# EAGLE library part BREAKOUT_HEADER (library quadparts_brandon)
10 pin single inline pin header, socket, or connector
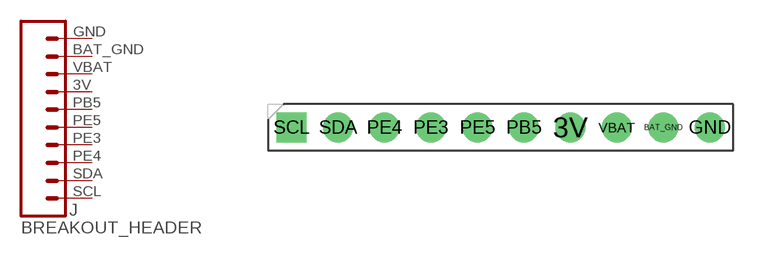
[diagram p1: symbol with the pads of HDRV10W63P254_10X1_2540X254H838_HS; footprint HDRV10W63P254_10X1_2540X254H838_HS]

Designator prefix J

## BREAKOUT_HEADERTH-254X10-1 (CREATOR: Brandon Rahman; DIST: Digikey; DISTPN: 609-3250-ND; MFR: Amphenol FCI; MPN: 68000-110HLF)  [HDRV10W63P254_10X1_2540X254H838_HS]
3V  3V  pas
BAT_GND  BAT_GND  pas
GND  GND  pas
PB5  PB5  pas
PE3  PE3  pas
PE4  PE4  pas
PE5  P5  pas
SCL  SCL  pas
SDA  SDA  pas
VBAT  VBAT  pas

## BREAKOUT_HEADERTH-254X10 (DATASHEET: http://portal.fciconnect.com/Comergent//fci/drawing/68000.pdf; DIST: Digikey; DISTPN: 609-3250-ND; MFR: Amphenol FCI; MPN: 68000-110HLF; PRICE: 0.55)  [HDRV10W63P254_10X1_2540X254H838_HS]
Pads as for HDRV10W63P254_10X1_2540X254H838_HS

## Footprint HDRV10W63P254_10X1_2540X254H838_HS (pad centres in mm)
Header, Vertical, 2.54 mm pitch; 0.635 mm lead width, 10 pins, 1 row, 10 pins per row, 25.40 mm L X 2.54 mm W X 8.38 mm H body PCB Libraries Packages
drill 1.1 pad 1.65: 3V 15.24,0; BAT_GND 20.32,0; GND 22.86,0; PB5 12.7,0; PE3 7.62,0; PE4 5.08,0; PE5 10.16,0; SDA 2.54,0; VBAT 17.78,0
drill 1.1 pad 1.65 square: SCL 0,0